# Altium schematic symbol library SCH - LDO - REF35250QDBVR.SCHLIB: 1 symbol
Pins are listed as number, name and electrical type; pins without a type are passive.

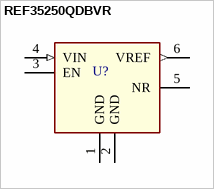
[diagram p0: symbol REF35250QDBVR]

## REF35250QDBVR
designator U?
2.5V ±0.05% 2.75V~6V 10mA Fixed SOT-23-6 Voltage Reference ROHS
pins: 1 GND (power), 2 GND (power), 3 EN, 4 VIN (in), 5 NR, 6 VREF (out)